# EAGLE library part HD74LVC541ATELL (library Buffer)
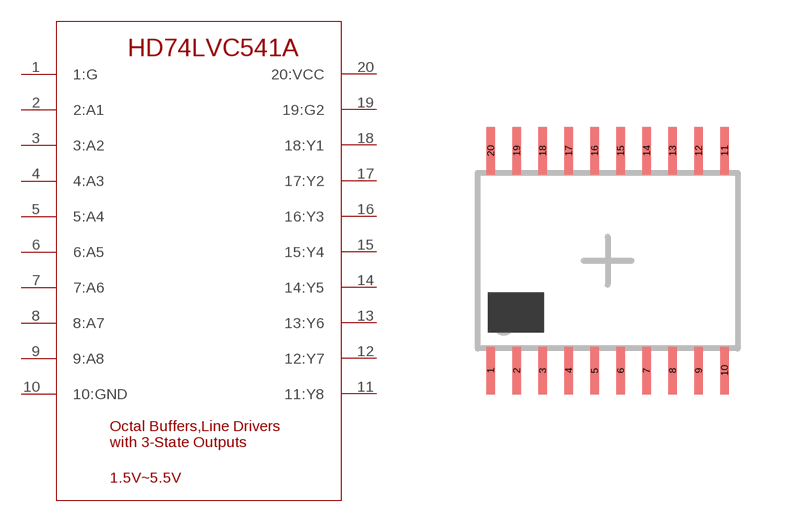
[diagram p0: symbol with the pads of HD74LVC541A(TSSOP); footprint HD74LVC541A(TSSOP)]

Designator prefix -

## HD74LVC541ATELL  [HD74LVC541A(TSSOP)]
1  1:G
2  2:A1
3  3:A2
4  4:A3
5  5:A4
6  6:A5
7  7:A6
8  8:A7
9  9:A8
10  10:GND
11  11:Y8
12  12:Y7
13  13:Y6
14  14:Y5
15  15:Y4
16  16:Y3
17  17:Y2
18  18:Y1
19  19:G2
20  20:VCC

## Footprint HD74LVC541A(TSSOP) (pad centres in mm)
smd 0.254 x 1.2: 1 -2.925,-2.75; 2 -2.275,-2.75; 3 -1.625,-2.75; 4 -0.975,-2.75; 5 -0.325,-2.75; 6 0.325,-2.75; 7 0.975,-2.75; 8 1.625,-2.75; 9 2.275,-2.75; 10 2.925,-2.75; 11 2.925,2.75; 12 2.275,2.75; 13 1.625,2.75; 14 0.975,2.75; 15 0.325,2.75; 16 -0.325,2.75; 17 -0.975,2.75; 18 -1.625,2.75; 19 -2.275,2.75; 20 -2.925,2.75